# Altium schematic symbol library 61301611821.SchLib: 1 symbol
Pins are listed as number, name and electrical type; pins without a type are passive.

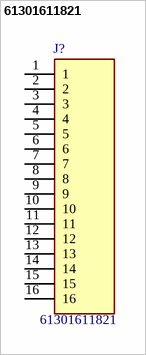
[diagram p0: symbol 61301611821]

## 61301611821
designator J?
WURTH ELEKTRONIK - 61301611821 - PCB Receptacle, Board-to-Board, 2.54 mm, 1 Rows, 16 Contacts, Through Hole Mount, WR-PHD Series; Geometry.Height: 8.65mm; Mouser Part Number: 710-61301611821; Mouser Price/Stock: https://www.mouser.co.uk/ProductDetail/Wurth-Elektronik/61301611821?qs=xZ%2FP%252Ba9zWqYIxo6RU%252B1Wuw%3D%3D; Manufacturer_Name: Wurth Elektronik; Manufacturer_Part_Number: 61301611821; Datasheet Link: https://www.we-online.com/catalog/datasheet/61301611821.pdf
footprint RHDR16W82P0X254_1X16_4114X250X865P
pins: 1, 2, 3, 4, 5, 6, 7, 8, 9, 10, 11, 12, 13, 14, 15, 16